# Altium integrated library Altium Database Library V2.IntLib: 376 symbols (part 5 of 17)

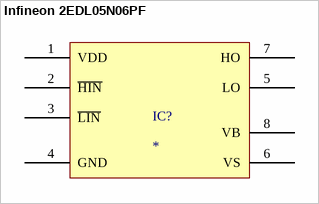
[diagram p92: symbol Infineon 2EDL05N06PF]

## Infineon 2EDL05N06PF
designator IC?
pins: 1 VDD, 2 ~{HIN}, 3 ~{LIN}, 4 GND, 5 LO, 6 VS, 7 HO, 8 VB


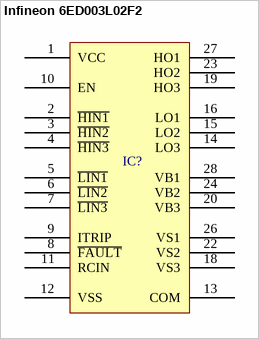
[diagram p93: symbol Infineon 6ED003L02F2]

## Infineon 6ED003L02F2
designator IC?
pins: 1 VCC, 2 ~{HIN1}, 3 ~{HIN2}, 4 ~{HIN3}, 5 ~{LIN1}, 6 ~{LIN2}, 7 ~{LIN3}, 8 ~{FAULT}, 9 ITRIP, 10 EN, 11 RCIN, 12 VSS, 13 COM, 14 LO3, 15 LO2, 16 LO1, 18 VS3, 19 HO3, 20 VB3, 22 VS2, 23 HO2, 24 VB2, 26 VS1, 27 HO1, 28 VB1


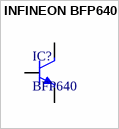
[diagram p94: symbol INFINEON BFP640]

## INFINEON BFP640
designator IC?, comment BFP640
NPN Silicon Germanium RF Transistor
pins: 1 B, 2 E, 3 C, 4 E


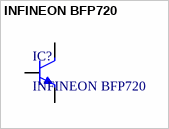
[diagram p95: symbol INFINEON BFP720]

## INFINEON BFP720
designator IC?
NPN Silicon Germanium RF Transistor
pins: 1 B, 2 E, 3 C, 4 E


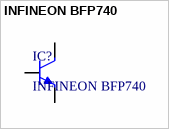
[diagram p96: symbol INFINEON BFP740]

## INFINEON BFP740
designator IC?
NPN Silicon Germanium RF Transistor
pins: 1 B, 2 E, 3 C, 4 E


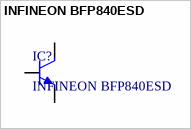
[diagram p97: symbol INFINEON BFP840ESD]

## INFINEON BFP840ESD
designator IC?
NPN Silicon Germanium RF Transistor
pins: 1 B, 2 E, 3 C, 4 E


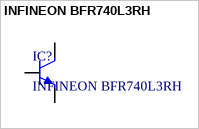
[diagram p98: symbol INFINEON BFR740L3RH]

## INFINEON BFR740L3RH
designator IC?
NPN Silicon Germanium RF Transistor
pins: 1 B, 2 C, 3 E


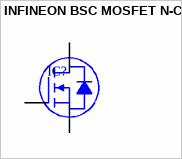
[diagram p99: symbol INFINEON BSC MOSFET N-CH]

## INFINEON BSC MOSFET N-CH
designator IC?
pins: 1 S, 2 S, 3 S, 4 G, 5 D, 6 D, 7 D, 8 D


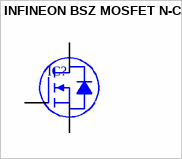
[diagram p100: symbol INFINEON BSZ MOSFET N-CH]

## INFINEON BSZ MOSFET N-CH
designator IC?
pins: 1 S, 2 S, 3 S, 4 G, 5 D, 6 D, 7 D, 8 D


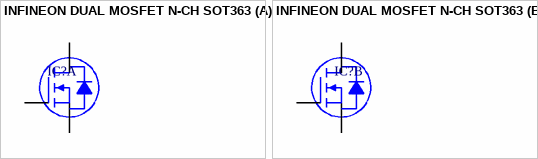
[diagram p101: symbol INFINEON DUAL MOSFET N-CH SOT363]

## INFINEON DUAL MOSFET N-CH SOT363
designator IC?
part A pins: 1 S1, 2 G1, 6 D1
part B pins: 3 D2, 4 S2, 5 G2


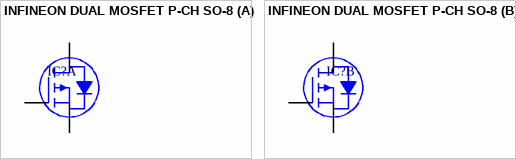
[diagram p102: symbol INFINEON DUAL MOSFET P-CH SO-8]

## INFINEON DUAL MOSFET P-CH SO-8
designator IC?
part A pins: 1 S1, 2 G1, 7 D1, 8 D1
part B pins: 3 S2, 4 G2, 5 D2, 6 D2


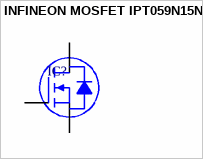
[diagram p103: symbol INFINEON MOSFET IPT059N15N3]

## INFINEON MOSFET IPT059N15N3
designator IC?
pins: D, G, S


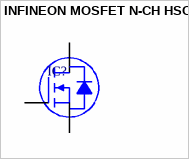
[diagram p104: symbol INFINEON MOSFET N-CH HSOF]

## INFINEON MOSFET N-CH HSOF
designator IC?
pins: 1 G, 2 S, 3 S, 4 S, 5 S, 6 S, 7 S, 8 S, 9 D


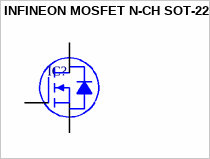
[diagram p105: symbol INFINEON MOSFET N-CH SOT-223]

## INFINEON MOSFET N-CH SOT-223
designator IC?
pins: 1 G, 2 D, 3 S, 4 D


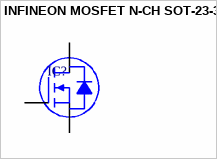
[diagram p106: symbol INFINEON MOSFET N-CH SOT-23-3]

## INFINEON MOSFET N-CH SOT-23-3
designator IC?
pins: 1 G, 2 D, 3 S


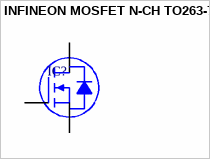
[diagram p107: symbol INFINEON MOSFET N-CH TO263-7]

## INFINEON MOSFET N-CH TO263-7
designator IC?
pins: 1 G, 2 S, 3 S, 5 S, 6 S, 7 S, 8 D


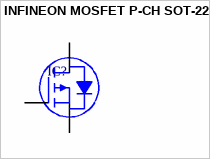
[diagram p108: symbol INFINEON MOSFET P-CH SOT-223]

## INFINEON MOSFET P-CH SOT-223
designator IC?
pins: 1 G, 2 D, 3 S, 4 D


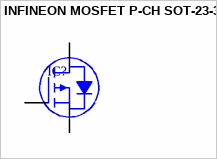
[diagram p109: symbol INFINEON MOSFET P-CH SOT-23-3]

## INFINEON MOSFET P-CH SOT-23-3
designator IC?
pins: 1 G, 2 D, 3 S


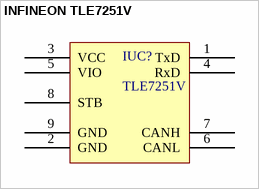
[diagram p110: symbol INFINEON TLE7251V]

## INFINEON TLE7251V
designator IUC?, comment TLE7251V
pins: 1 TxD, 2 GND, 3 VCC, 4 RxD, 5 VIO, 6 CANL, 7 CANH, 8 STB, 9 GND


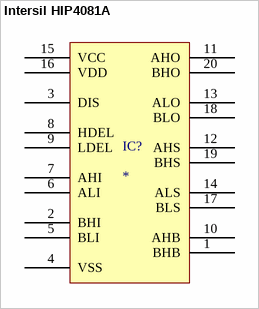
[diagram p111: symbol Intersil HIP4081A]

## Intersil HIP4081A
designator IC?
pins: 1 BHB, 2 BHI, 3 DIS, 4 VSS, 5 BLI, 6 ALI, 7 AHI, 8 HDEL, 9 LDEL, 10 AHB, 11 AHO, 12 AHS, 13 ALO, 14 ALS, 15 VCC, 16 VDD, 17 BLS, 18 BLO, 19 BHS, 20 BHO


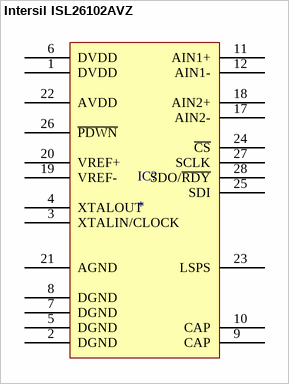
[diagram p112: symbol Intersil ISL26102AVZ]

## Intersil ISL26102AVZ
designator IC?
pins: 1 DVDD, 2 DGND, 3 XTALIN/CLOCK, 4 XTALOUT, 5 DGND, 6 DVDD, 7 DGND, 8 DGND, 9 CAP, 10 CAP, 11 AIN1+, 12 AIN1-, 17 AIN2-, 18 AIN2+, 19 VREF-, 20 VREF+, 21 AGND, 22 AVDD, 23 LSPS, 24 ~{CS}, 25 SDI, 26 ~{PDWN}, 27 SCLK, 28 SDO/~{RDY}


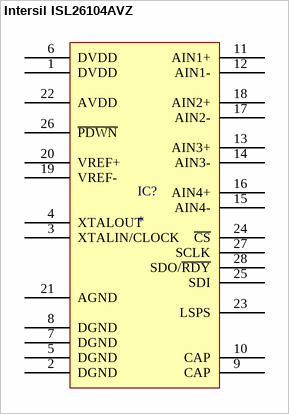
[diagram p113: symbol Intersil ISL26104AVZ]

## Intersil ISL26104AVZ
designator IC?
pins: 1 DVDD, 2 DGND, 3 XTALIN/CLOCK, 4 XTALOUT, 5 DGND, 6 DVDD, 7 DGND, 8 DGND, 9 CAP, 10 CAP, 11 AIN1+, 12 AIN1-, 13 AIN3+, 14 AIN3-, 15 AIN4-, 16 AIN4+, 17 AIN2-, 18 AIN2+, 19 VREF-, 20 VREF+, 21 AGND, 22 AVDD, 23 LSPS, 24 ~{CS}, 25 SDI, 26 ~{PDWN}, 27 SCLK, 28 SDO/~{RDY}


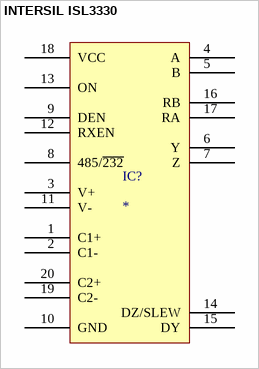
[diagram p114: symbol INTERSIL ISL3330]

## INTERSIL ISL3330
designator IC?
pins: 1 C1+, 2 C1-, 3 V+, 4 A, 5 B, 6 Y, 7 Z, 8 485/~{232}, 9 DEN, 10 GND, 11 V-, 12 RXEN, 13 ON, 14 DZ/SLEW, 15 DY, 16 RB, 17 RA, 18 VCC, 19 C2-, 20 C2+
